# Altium schematic symbol library Inductors.SchLib: 2 symbols
Pins are listed as number, name and electrical type; pins without a type are passive.

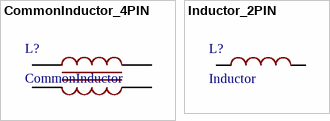
[diagram p0: symbols CommonInductor_4PIN to Inductor_2PIN]

## CommonInductor_4PIN
designator L?, comment CommonInductor
Type: Type
footprint CommonInductor_FL2D-xx-xxx
pins: 1, 2, 3, 4

## Inductor_2PIN
designator L?, comment Inductor
Type: Type
footprint FXL0630-XXX (Power Inductors)
pins: 1, 2